# EAGLE library part SDCARD_EXT (library LearningByMaking2)
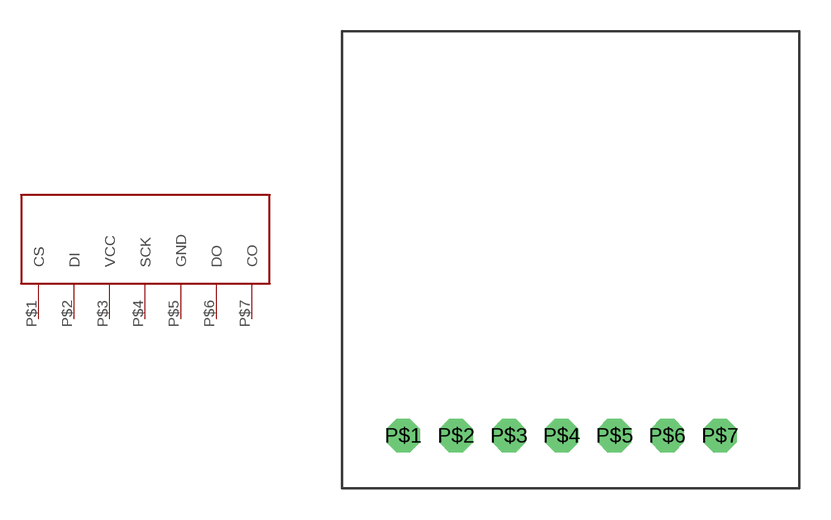
[diagram p5: symbol with the pads of SDCARD_EXT; footprint SDCARD_EXT]

Designator prefix -

## SDCARD_EXT  [SDCARD_EXT]
P$1  CS
P$2  DI
P$3  VCC
P$4  SCK
P$5  GND
P$6  DO
P$7  CO

## Footprint SDCARD_EXT (pad centres in mm)
drill 0.914 pad 1.6 octagon: P$1 -7.62,2.54; P$2 -5.08,2.54; P$3 -2.54,2.54; P$4 0,2.54; P$5 2.54,2.54; P$6 5.08,2.54; P$7 7.62,2.54